# EAGLE library part DWM1001C (library RescueRunner)
UWB + BT RF MODULE {Certified} Source: Datasheet <https://www.decawave.com/sites/default/files/dwm1001_datasheet.pdf>
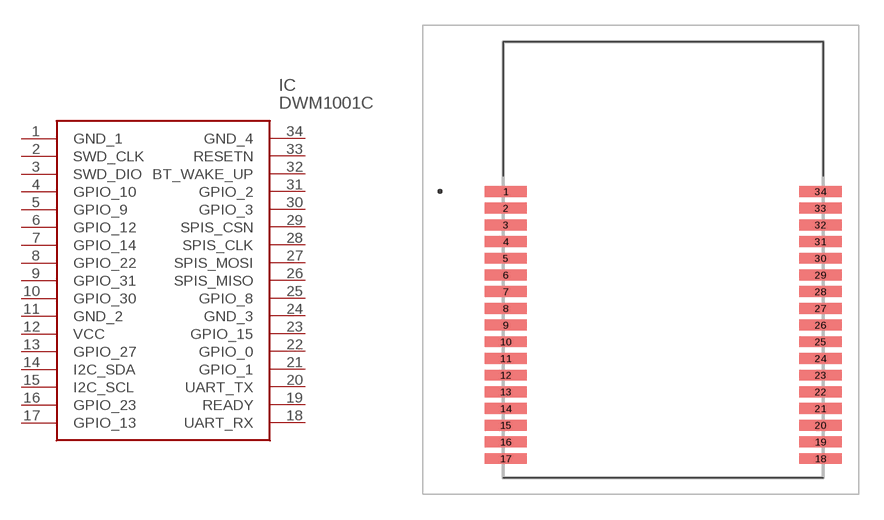
[diagram p3: symbol with the pads of DWM1001C; footprint DWM1001C]

Designator prefix IC

## DWM1001C (DESCRIPTION: UWB + BT RF MODULE {Certified}; HEIGHT: 3.4mm; MANUFACTURER_NAME: Qorvo; MANUFACTURER_PART_NUMBER: DWM1001C)  [DWM1001C]
1  GND_1
2  SWD_CLK
3  SWD_DIO
4  GPIO_10
5  GPIO_9
6  GPIO_12
7  GPIO_14
8  GPIO_22
9  GPIO_31
10  GPIO_30
11  GND_2
12  VCC
13  GPIO_27
14  I2C_SDA
15  I2C_SCL
16  GPIO_23
17  GPIO_13
18  UART_RX
19  READY
20  UART_TX
21  GPIO_1
22  GPIO_0
23  GPIO_15
24  GND_3
25  GPIO_8
26  SPIS_MISO
27  SPIS_MOSI
28  SPIS_CLK
29  SPIS_CSN
30  GPIO_3
31  GPIO_2
32  BT_WAKE_UP
33  RESETN
34  GND_4

## Footprint DWM1001C (pad centres in mm)
DWM1001C-3
smd 2.54 x 0.65: 1 -9.42,4.09; 2 -9.42,3.09; 3 -9.42,2.09; 4 -9.42,1.09; 5 -9.42,0.09; 6 -9.42,-0.91; 7 -9.42,-1.91; 8 -9.42,-2.91; 9 -9.42,-3.91; 10 -9.42,-4.91; 11 -9.42,-5.91; 12 -9.42,-6.91; 13 -9.42,-7.91; 14 -9.42,-8.91; 15 -9.42,-9.91; 16 -9.42,-10.91; 17 -9.42,-11.91; 18 9.42,-11.91; 19 9.42,-10.91; 20 9.42,-9.91; 21 9.42,-8.91; 22 9.42,-7.91; 23 9.42,-6.91; 24 9.42,-5.91; 25 9.42,-4.91; 26 9.42,-3.91; 27 9.42,-2.91; 28 9.42,-1.91; 29 9.42,-0.91; 30 9.42,0.09; 31 9.42,1.09; 32 9.42,2.09; 33 9.42,3.09; 34 9.42,4.09